# EAGLE library part ATXMEGAXXA4U (library pimoroni)
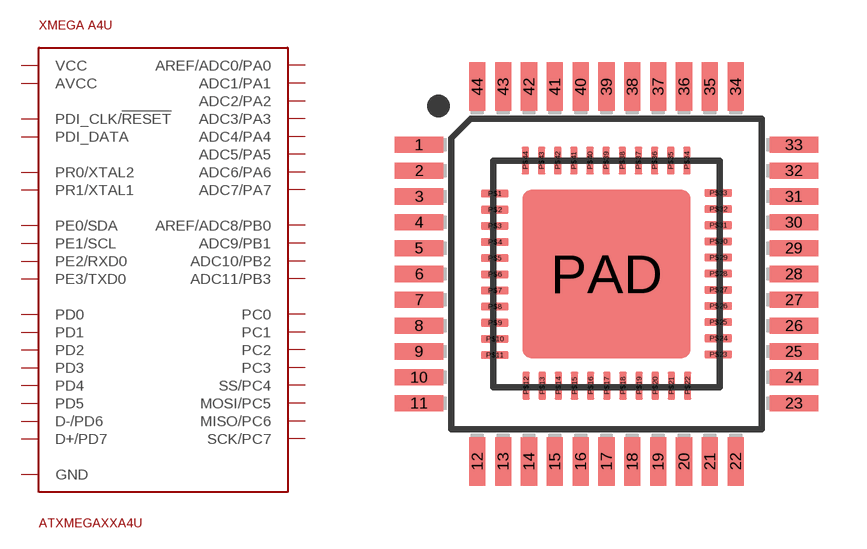
[diagram p56: symbol with the pads of TQFP-44/QFN-44; footprint TQFP-44/QFN-44]

Designator prefix -

## ATXMEGAXXA4U  [TQFP-44/QFN-44]
1  ADC5/PA5
2  ADC6/PA6
3  ADC7/PA7
4  AREF/ADC8/PB0
5  ADC9/PB1
6  ADC10/PB2
7  ADC11/PB3
8  GND
9  VCC
10  PC0
11  PC1
12  PC2
13  PC3
14  SS/PC4
15  MOSI/PC5
16  MISO/PC6
17  SCK/PC7
18  GND
19  VCC
20  PD0
21  PD1
22  PD2
23  PD3
24  PD4
25  PD5
26  D-/PD6
27  D+/PD7
28  PE0/SDA
29  PE1/SCL
30  GND
31  VCC
32  PE2/RXD0
33  PE3/TXD0
34  PDI_DATA
35  PDI_CLK/!RESET
36  PR0/XTAL2
37  PR1/XTAL1
38  GND
39  AVCC
40  AREF/ADC0/PA0
41  ADC1/PA1
42  ADC2/PA2
43  ADC3/PA3
44  ADC4/PA4
P$1  ADC5/PA5
P$2  ADC6/PA6
P$3  ADC7/PA7
P$4  AREF/ADC8/PB0
P$5  ADC9/PB1
P$6  ADC10/PB2
P$7  ADC11/PB3
P$8  GND
P$9  VCC
P$10  PC0
P$11  PC1
P$12  PC2
P$13  PC3
P$14  SS/PC4
P$15  MOSI/PC5
P$16  MISO/PC6
P$17  SCK/PC7
P$18  GND
P$19  VCC
P$20  PD0
P$21  PD1
P$22  PD2
P$23  PD3
P$24  PD4
P$25  PD5
P$26  D-/PD6
P$27  D+/PD7
P$28  PE0/SDA
P$29  PE1/SCL
P$30  GND
P$31  VCC
P$32  PE2/RXD0
P$33  PE3/TXD0
P$34  PDI_DATA
P$35  PDI_CLK/!RESET
P$36  PR0/XTAL2
P$37  PR1/XTAL1
P$38  GND
P$39  AVCC
P$40  AREF/ADC0/PA0
P$41  ADC1/PA1
P$42  ADC2/PA2
P$43  ADC3/PA3
P$44  ADC4/PA4
PAD  GND

## Footprint TQFP-44/QFN-44 (pad centres in mm)
smd 1.5 x 0.5: 1 -5.8,4; 2 -5.8,3.2; 3 -5.8,2.4; 4 -5.8,1.6; 5 -5.8,0.8; 6 -5.8,0; 7 -5.8,-0.8; 8 -5.8,-1.6; 9 -5.8,-2.4; 10 -5.8,-3.2; 11 -5.8,-4; 23 5.8,-4; 24 5.8,-3.2; 25 5.8,-2.4; 26 5.8,-1.6; 27 5.8,-0.8; 28 5.8,0; 29 5.8,0.8; 30 5.8,1.6; 31 5.8,2.4; 32 5.8,3.2; 33 5.8,4
smd 0.5 x 1.5: 12 -4,-5.8; 13 -3.2,-5.8; 14 -2.4,-5.8; 15 -1.6,-5.8; 16 -0.8,-5.8; 17 0,-5.8; 18 0.8,-5.8; 19 1.6,-5.8; 20 2.4,-5.8; 21 3.2,-5.8; 22 4,-5.8; 34 4,5.8; 35 3.2,5.8; 36 2.4,5.8; 37 1.6,5.8; 38 0.8,5.8; 39 0,5.8; 40 -0.8,5.8; 41 -1.6,5.8; 42 -2.4,5.8; 43 -3.2,5.8; 44 -4,5.8
smd 0.85 x 0.23: P$1 -3.46,2.49; P$2 -3.46,1.99; P$3 -3.46,1.49; P$4 -3.46,0.99; P$5 -3.46,0.49; P$6 -3.46,-0.01; P$7 -3.46,-0.51; P$8 -3.46,-1.01; P$9 -3.46,-1.51; P$10 -3.46,-2.01; P$11 -3.46,-2.51; P$23 3.46,-2.49; P$24 3.46,-1.99; P$25 3.46,-1.49; P$26 3.46,-0.99; P$27 3.46,-0.49; P$28 3.46,0.01; P$29 3.46,0.51; P$30 3.46,1.01; P$31 3.46,1.51; P$32 3.46,2.01; P$33 3.46,2.51
smd 0.23 x 0.85: P$12 -2.49,-3.46; P$13 -1.99,-3.46; P$14 -1.49,-3.46; P$15 -0.99,-3.46; P$16 -0.49,-3.46; P$17 0.01,-3.46; P$18 0.51,-3.46; P$19 1.01,-3.46; P$20 1.51,-3.46; P$21 2.01,-3.46; P$22 2.51,-3.46; P$34 2.49,3.51; P$35 1.99,3.51; P$36 1.49,3.51; P$37 0.99,3.51; P$38 0.49,3.51; P$39 -0.01,3.51; P$40 -0.51,3.51; P$41 -1.01,3.51; P$42 -1.51,3.51; P$43 -2.01,3.51; P$44 -2.51,3.51
smd 5.2 x 5.2: PAD 0,0